# Altium integrated library Micron Memory DDR SDRAM.IntLib: 109 symbols (part 3 of 22)
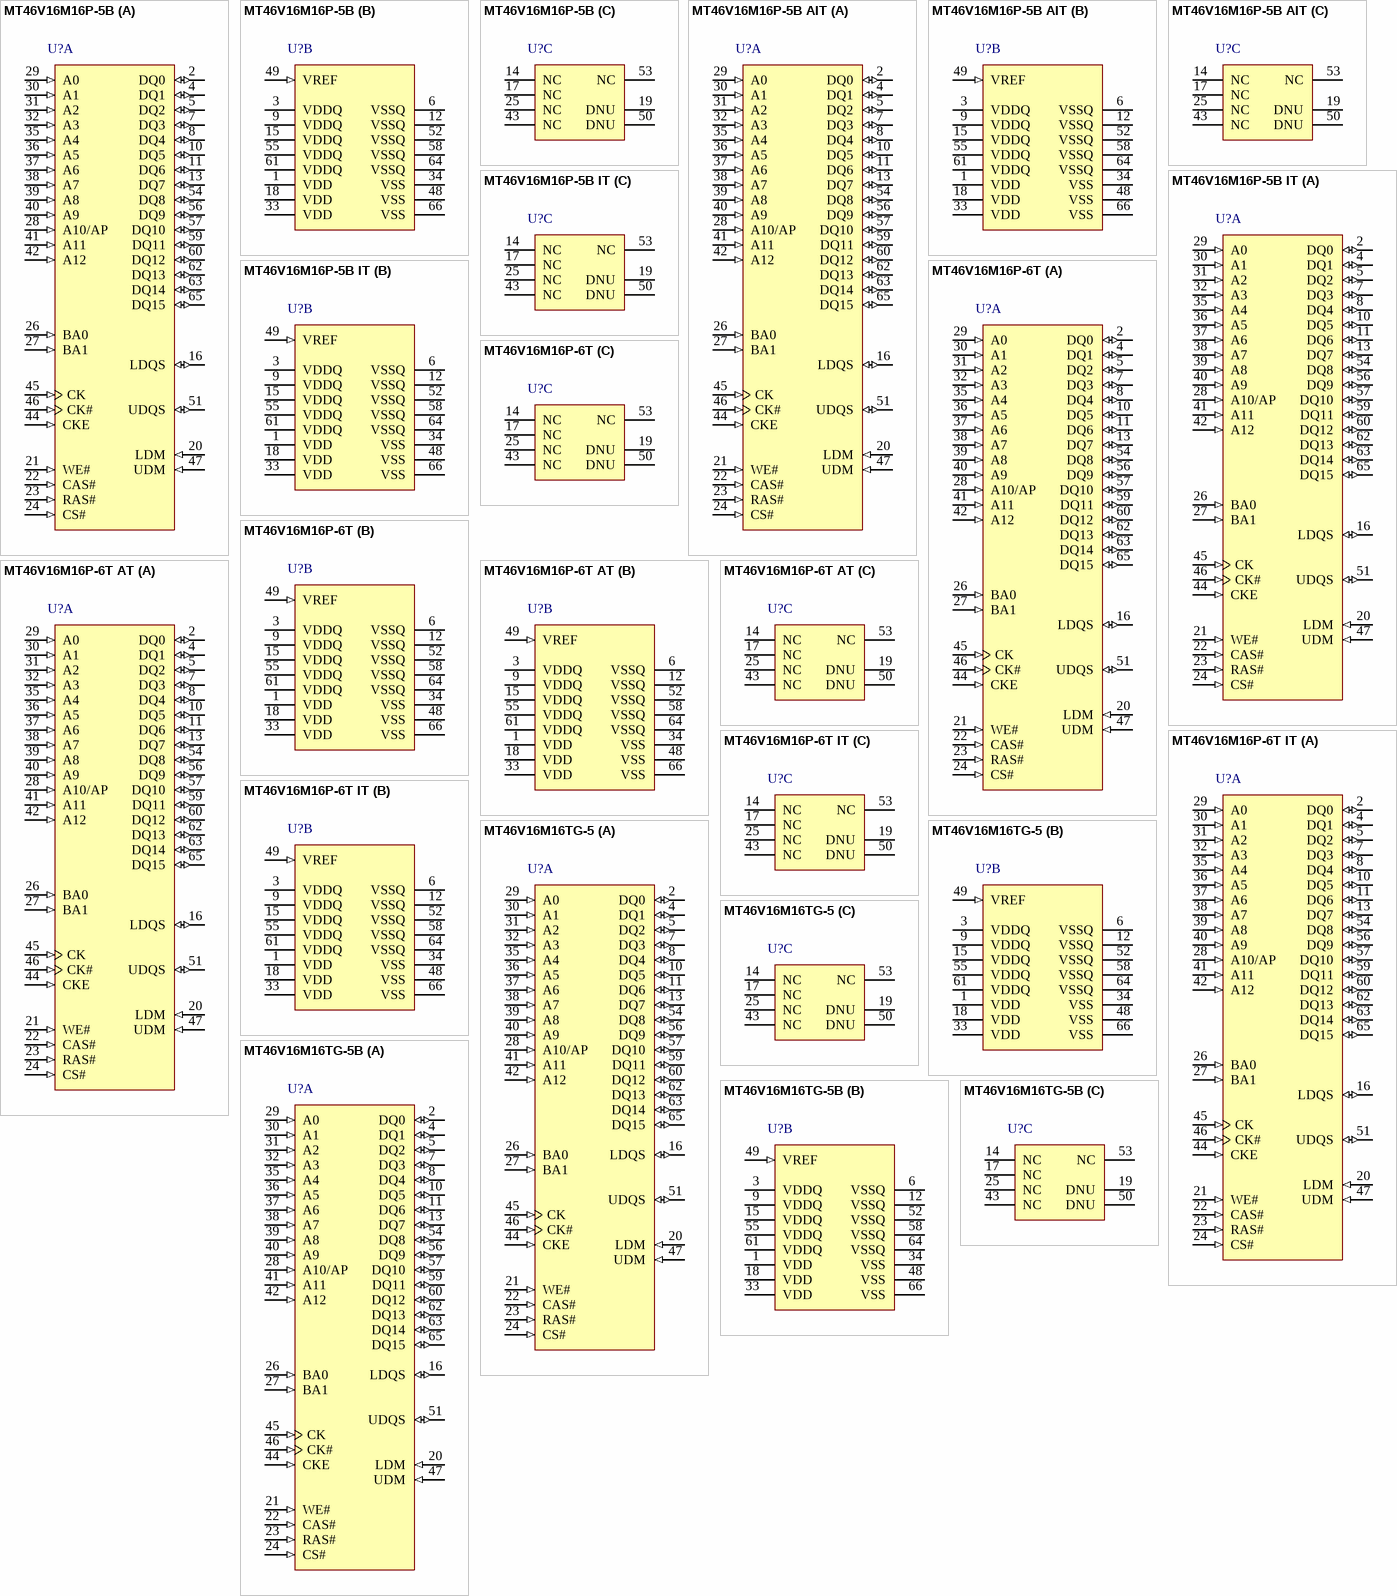
[diagram p15: symbols MT46V16M16P-5B to MT46V16M16TG-5B]

## MT46V16M16P-5B AIT
designator U?
256Mb 200MHz DDR SDRAM, 16Mb x 16, 5ns, 2.5V, -40 to 85 degC, 66-Pin TSOP, Pb-Free; Manufacturer: Micron; PartNumber: MT46V16M16P-5B AIT; Op. Temp.: -40C to +85C; DatasheetVersion: Rev.R; PackageVersion: Rev.R; PackageReference: MICT-P-66; PackageDescription: 66-Pin Thin Small Outline Package, 10.16 x 22.22 mm, Pitch 0.65 mm; Clock Rate: 200 MHz; Cycle Time: 5ns; Density: 256Mb; Depth: 16Mb; Package: TSOP; Part Status: Production; Pin Count: 66-pin; RoHS: Yes; Voltage: 2.5V; Width: x16; Mounting Technology: Surface Mount; ComponentLink1Description: Manufacturer URL; ComponentLink1URL: http://www.micron.com/; ComponentLink2Description: Datasheet; ComponentLink2URL: http://www.micron.com/~/media/Documents/Products/Data%20Sheet/DRAM/256Mb_DDR.pdf; ComponentLink3Description: Package Specification; ComponentLink3URL: http://www.micron.com/~/media/Documents/Products/Data%20Sheet/DRAM/256Mb_DDR.pdf
footprint MICT-P-66_N (SOP, 66-Leads, Body 22.22x10.16mm, Pitch 0.65mm, , IPC Medium Density)
part A pins: 2 DQ0 (io) "Data input/output: Data bus for x16 devices.", 4 DQ1 (io) "Data input/output: Data bus for x16 devices.", 5 DQ2 (io) "Data input/output: Data bus for x16 devices.", 7 DQ3 (io) "Data input/output: Data bus for x16 devices.", 8 DQ4 (io) "Data input/output: Data bus for x16 devices.", 10 DQ5 (io) "Data input/output: Data bus for x16 devices.", 11 DQ6 (io) "Data input/output: Data bus for x16 devices.", 13 DQ7 (io) "Data input/output: Data bus for x16 devices.", 16 LDQS (io) "Data strobe: Output with read data; input with write data. DQS is edge-aligned with read data; centered in write data. It is used to capture data. For x16 devices, LDQS is DQS for DQ[7:0], and UDQS is DQS for DQ[15:8]. Pin (See Datasheet)", 20 LDM (in) "Input data mask: DM is an input mask signal for write data. Input data is masked when DM is sampled HIGH along with that input data during a WRITE access. DM is sampled on both edges of DQS. Although DM pins are input-only, (See Datasheet)", 21 WE# (in) "Command inputs: RAS#, CAS#, and WE# (along with CS#) define the command being entered.", 22 CAS# (in) "Command inputs: RAS#, CAS#, and WE# (along with CS#) define the command being entered.", 23 RAS# (in) "Command inputs: RAS#, CAS#, and WE# (along with CS#) define the command being entered.", 24 CS# (in) "Chip select: CS# enables (registered LOW) and disables (registered HIGH) the command decoder. All commands are masked when CS# is registered HIGH. CS# provides for external bank selection on systems with multiple banks. CS# (See Datasheet)", 26 BA0 (in) "Bank address inputs: BA[1:0] define to which bank an ACTIVE, READ, WRITE, or PRECHARGE command is being applied. BA[1:0] also define which mode register (mode register or extended mode register) is loaded during the LOAD (See Datasheet)", 27 BA1 (in) "Bank address inputs: BA[1:0] define to which bank an ACTIVE, READ, WRITE, or PRECHARGE command is being applied. BA[1:0] also define which mode register (mode register or extended mode register) is loaded during the LOAD (See Datasheet)", 28 A10/AP (in) "Address inputs: Provide the row address for ACTIVE commands, and the column address and auto precharge bit (A10) for READ/WRITE commands, to select one location out of the memory array in the respective bank. A10 sampled (See Datasheet)", 29 A0 (in) "Address inputs: Provide the row address for ACTIVE commands, and the column address and auto precharge bit (A10) for READ/WRITE commands, to select one location out of the memory array in the respective bank. A10 sampled (See Datasheet)", 30 A1 (in) "Address inputs: Provide the row address for ACTIVE commands, and the column address and auto precharge bit (A10) for READ/WRITE commands, to select one location out of the memory array in the respective bank. A10 sampled (See Datasheet)", 31 A2 (in) "Address inputs: Provide the row address for ACTIVE commands, and the column address and auto precharge bit (A10) for READ/WRITE commands, to select one location out of the memory array in the respective bank. A10 sampled (See Datasheet)", 32 A3 (in) "Address inputs: Provide the row address for ACTIVE commands, and the column address and auto precharge bit (A10) for READ/WRITE commands, to select one location out of the memory array in the respective bank. A10 sampled (See Datasheet)", 35 A4 (in) "Address inputs: Provide the row address for ACTIVE commands, and the column address and auto precharge bit (A10) for READ/WRITE commands, to select one location out of the memory array in the respective bank. A10 sampled (See Datasheet)", 36 A5 (in) "Address inputs: Provide the row address for ACTIVE commands, and the column address and auto precharge bit (A10) for READ/WRITE commands, to select one location out of the memory array in the respective bank. A10 sampled (See Datasheet)", 37 A6 (in) "Address inputs: Provide the row address for ACTIVE commands, and the column address and auto precharge bit (A10) for READ/WRITE commands, to select one location out of the memory array in the respective bank. A10 sampled (See Datasheet)", 38 A7 (in) "Address inputs: Provide the row address for ACTIVE commands, and the column address and auto precharge bit (A10) for READ/WRITE commands, to select one location out of the memory array in the respective bank. A10 sampled (See Datasheet)", 39 A8 (in) "Address inputs: Provide the row address for ACTIVE commands, and the column address and auto precharge bit (A10) for READ/WRITE commands, to select one location out of the memory array in the respective bank. A10 sampled (See Datasheet)", 40 A9 (in) "Address inputs: Provide the row address for ACTIVE commands, and the column address and auto precharge bit (A10) for READ/WRITE commands, to select one location out of the memory array in the respective bank. A10 sampled (See Datasheet)", 41 A11 (in) "Address inputs: Provide the row address for ACTIVE commands, and the column address and auto precharge bit (A10) for READ/WRITE commands, to select one location out of the memory array in the respective bank. A10 sampled (See Datasheet)", 42 A12 (in) "Address inputs: Provide the row address for ACTIVE commands, and the column address and auto precharge bit (A10) for READ/WRITE commands, to select one location out of the memory array in the respective bank. A10 sampled (See Datasheet)", 44 CKE (in) "Clock enable: CKE HIGH activates and CKE LOW deactivates the internal clock, input buffers, and output drivers. Taking CKE LOW provides PRECHARGE POWER-DOWN and SELF REFRESH operations (all banks idle) or ACTIVE POWER-DOWN (See Datasheet)", 45 CK (in) "Clock: CK and CK# are differential clock inputs. All address and control input signals are sampled on the crossing of the positive edge of CK and the negative edge of CK#. Output data (DQ and DQS) is referenced to the (See Datasheet)", 46 CK# (in) "Clock: CK and CK# are differential clock inputs. All address and control input signals are sampled on the crossing of the positive edge of CK and the negative edge of CK#. Output data (DQ and DQS) is referenced to the (See Datasheet)", 47 UDM (in) "Input data mask: DM is an input mask signal for write data. Input data is masked when DM is sampled HIGH along with that input data during a WRITE access. DM is sampled on both edges of DQS. Although DM pins are input-only, (See Datasheet)", 51 UDQS (io) "Data strobe: Output with read data; input with write data. DQS is edge-aligned with read data; centered in write data. It is used to capture data. For x16 devices, LDQS is DQS for DQ[7:0], and UDQS is DQS for DQ[15:8]. Pin (See Datasheet)", 54 DQ8 (io) "Data input/output: Data bus for x16 devices.", 56 DQ9 (io) "Data input/output: Data bus for x16 devices.", 57 DQ10 (io) "Data input/output: Data bus for x16 devices.", 59 DQ11 (io) "Data input/output: Data bus for x16 devices.", 60 DQ12 (io) "Data input/output: Data bus for x16 devices.", 62 DQ13 (io) "Data input/output: Data bus for x16 devices.", 63 DQ14 (io) "Data input/output: Data bus for x16 devices.", 65 DQ15 (io) "Data input/output: Data bus for x16 devices."
part B pins: 1 VDD (power) "Power supply.", 3 VDDQ (power) "DQ power supply: Isolated on the die for improved noise immunity.", 6 VSSQ (power) "DQ ground: Isolated on the die for improved noise immunity.", 9 VDDQ (power) "DQ power supply: Isolated on the die for improved noise immunity.", 12 VSSQ (power) "DQ ground: Isolated on the die for improved noise immunity.", 15 VDDQ (power) "DQ power supply: Isolated on the die for improved noise immunity.", 18 VDD (power) "Power supply.", 33 VDD (power) "Power supply.", 34 VSS (power) "Ground.", 48 VSS (power) "Ground.", 49 VREF (in) "SSTL_2 reference voltage.", 52 VSSQ (power) "DQ ground: Isolated on the die for improved noise immunity.", 55 VDDQ (power) "DQ power supply: Isolated on the die for improved noise immunity.", 58 VSSQ (power) "DQ ground: Isolated on the die for improved noise immunity.", 61 VDDQ (power) "DQ power supply: Isolated on the die for improved noise immunity.", 64 VSSQ (power) "DQ ground: Isolated on the die for improved noise immunity.", 66 VSS (power) "Ground."
part C pins: 14 NC "No connect for x16, x8, x4: These pins should be left unconnected.", 17 NC "No connect for x16, x8, x4: These pins should be left unconnected.", 19 DNU "Do not use: Must float to minimize noise on VREF.", 25 NC "No connect for x16, x8, x4: These pins should be left unconnected.", 43 NC "No connect for x16, x8, x4: These pins should be left unconnected.", 50 DNU "Do not use: Must float to minimize noise on VREF.", 53 NC "No connect for x16, x8, x4: These pins should be left unconnected."

## MT46V16M16P-5B IT
designator U?
256Mb 200MHz DDR SDRAM, 16Mb x 16, 5ns, 2.6V, -40 to 85 degC, 66-Pin TSOP, Pb-Free; Manufacturer: Micron; PartNumber: MT46V16M16P-5B IT; Op. Temp.: -40C to +85C; DatasheetVersion: Rev.R; PackageVersion: Rev.R; PackageReference: MICT-P-66; PackageDescription: 66-Pin Thin Small Outline Package, 10.16 x 22.22 mm, Pitch 0.65 mm; Clock Rate: 200 MHz; Cycle Time: 5ns; Density: 256Mb; Depth: 16Mb; Package: TSOP; Part Status: Production; Pin Count: 66-pin; RoHS: Yes; Voltage: 2.6V; Width: x16; Mounting Technology: Surface Mount; ComponentLink1Description: Manufacturer URL; ComponentLink1URL: http://www.micron.com/; ComponentLink2Description: Datasheet; ComponentLink2URL: http://www.micron.com/~/media/Documents/Products/Data%20Sheet/DRAM/256Mb_DDR.pdf; ComponentLink3Description: Package Specification; ComponentLink3URL: http://www.micron.com/~/media/Documents/Products/Data%20Sheet/DRAM/256Mb_DDR.pdf
footprint MICT-P-66_N (SOP, 66-Leads, Body 22.22x10.16mm, Pitch 0.65mm, , IPC Medium Density)
part A pins: 2 DQ0 (io) "Data input/output: Data bus for x16 devices.", 4 DQ1 (io) "Data input/output: Data bus for x16 devices.", 5 DQ2 (io) "Data input/output: Data bus for x16 devices.", 7 DQ3 (io) "Data input/output: Data bus for x16 devices.", 8 DQ4 (io) "Data input/output: Data bus for x16 devices.", 10 DQ5 (io) "Data input/output: Data bus for x16 devices.", 11 DQ6 (io) "Data input/output: Data bus for x16 devices.", 13 DQ7 (io) "Data input/output: Data bus for x16 devices.", 16 LDQS (io) "Data strobe: Output with read data; input with write data. DQS is edge-aligned with read data; centered in write data. It is used to capture data. For x16 devices, LDQS is DQS for DQ[7:0], and UDQS is DQS for DQ[15:8]. Pin (See Datasheet)", 20 LDM (in) "Input data mask: DM is an input mask signal for write data. Input data is masked when DM is sampled HIGH along with that input data during a WRITE access. DM is sampled on both edges of DQS. Although DM pins are input-only, (See Datasheet)", 21 WE# (in) "Command inputs: RAS#, CAS#, and WE# (along with CS#) define the command being entered.", 22 CAS# (in) "Command inputs: RAS#, CAS#, and WE# (along with CS#) define the command being entered.", 23 RAS# (in) "Command inputs: RAS#, CAS#, and WE# (along with CS#) define the command being entered.", 24 CS# (in) "Chip select: CS# enables (registered LOW) and disables (registered HIGH) the command decoder. All commands are masked when CS# is registered HIGH. CS# provides for external bank selection on systems with multiple banks. CS# (See Datasheet)", 26 BA0 (in) "Bank address inputs: BA[1:0] define to which bank an ACTIVE, READ, WRITE, or PRECHARGE command is being applied. BA[1:0] also define which mode register (mode register or extended mode register) is loaded during the LOAD (See Datasheet)", 27 BA1 (in) "Bank address inputs: BA[1:0] define to which bank an ACTIVE, READ, WRITE, or PRECHARGE command is being applied. BA[1:0] also define which mode register (mode register or extended mode register) is loaded during the LOAD (See Datasheet)", 28 A10/AP (in) "Address inputs: Provide the row address for ACTIVE commands, and the column address and auto precharge bit (A10) for READ/WRITE commands, to select one location out of the memory array in the respective bank. A10 sampled (See Datasheet)", 29 A0 (in) "Address inputs: Provide the row address for ACTIVE commands, and the column address and auto precharge bit (A10) for READ/WRITE commands, to select one location out of the memory array in the respective bank. A10 sampled (See Datasheet)", 30 A1 (in) "Address inputs: Provide the row address for ACTIVE commands, and the column address and auto precharge bit (A10) for READ/WRITE commands, to select one location out of the memory array in the respective bank. A10 sampled (See Datasheet)", 31 A2 (in) "Address inputs: Provide the row address for ACTIVE commands, and the column address and auto precharge bit (A10) for READ/WRITE commands, to select one location out of the memory array in the respective bank. A10 sampled (See Datasheet)", 32 A3 (in) "Address inputs: Provide the row address for ACTIVE commands, and the column address and auto precharge bit (A10) for READ/WRITE commands, to select one location out of the memory array in the respective bank. A10 sampled (See Datasheet)", 35 A4 (in) "Address inputs: Provide the row address for ACTIVE commands, and the column address and auto precharge bit (A10) for READ/WRITE commands, to select one location out of the memory array in the respective bank. A10 sampled (See Datasheet)", 36 A5 (in) "Address inputs: Provide the row address for ACTIVE commands, and the column address and auto precharge bit (A10) for READ/WRITE commands, to select one location out of the memory array in the respective bank. A10 sampled (See Datasheet)", 37 A6 (in) "Address inputs: Provide the row address for ACTIVE commands, and the column address and auto precharge bit (A10) for READ/WRITE commands, to select one location out of the memory array in the respective bank. A10 sampled (See Datasheet)", 38 A7 (in) "Address inputs: Provide the row address for ACTIVE commands, and the column address and auto precharge bit (A10) for READ/WRITE commands, to select one location out of the memory array in the respective bank. A10 sampled (See Datasheet)", 39 A8 (in) "Address inputs: Provide the row address for ACTIVE commands, and the column address and auto precharge bit (A10) for READ/WRITE commands, to select one location out of the memory array in the respective bank. A10 sampled (See Datasheet)", 40 A9 (in) "Address inputs: Provide the row address for ACTIVE commands, and the column address and auto precharge bit (A10) for READ/WRITE commands, to select one location out of the memory array in the respective bank. A10 sampled (See Datasheet)", 41 A11 (in) "Address inputs: Provide the row address for ACTIVE commands, and the column address and auto precharge bit (A10) for READ/WRITE commands, to select one location out of the memory array in the respective bank. A10 sampled (See Datasheet)", 42 A12 (in) "Address inputs: Provide the row address for ACTIVE commands, and the column address and auto precharge bit (A10) for READ/WRITE commands, to select one location out of the memory array in the respective bank. A10 sampled (See Datasheet)", 44 CKE (in) "Clock enable: CKE HIGH activates and CKE LOW deactivates the internal clock, input buffers, and output drivers. Taking CKE LOW provides PRECHARGE POWER-DOWN and SELF REFRESH operations (all banks idle) or ACTIVE POWER-DOWN (See Datasheet)", 45 CK (in) "Clock: CK and CK# are differential clock inputs. All address and control input signals are sampled on the crossing of the positive edge of CK and the negative edge of CK#. Output data (DQ and DQS) is referenced to the (See Datasheet)", 46 CK# (in) "Clock: CK and CK# are differential clock inputs. All address and control input signals are sampled on the crossing of the positive edge of CK and the negative edge of CK#. Output data (DQ and DQS) is referenced to the (See Datasheet)", 47 UDM (in) "Input data mask: DM is an input mask signal for write data. Input data is masked when DM is sampled HIGH along with that input data during a WRITE access. DM is sampled on both edges of DQS. Although DM pins are input-only, (See Datasheet)", 51 UDQS (io) "Data strobe: Output with read data; input with write data. DQS is edge-aligned with read data; centered in write data. It is used to capture data. For x16 devices, LDQS is DQS for DQ[7:0], and UDQS is DQS for DQ[15:8]. Pin (See Datasheet)", 54 DQ8 (io) "Data input/output: Data bus for x16 devices.", 56 DQ9 (io) "Data input/output: Data bus for x16 devices.", 57 DQ10 (io) "Data input/output: Data bus for x16 devices.", 59 DQ11 (io) "Data input/output: Data bus for x16 devices.", 60 DQ12 (io) "Data input/output: Data bus for x16 devices.", 62 DQ13 (io) "Data input/output: Data bus for x16 devices.", 63 DQ14 (io) "Data input/output: Data bus for x16 devices.", 65 DQ15 (io) "Data input/output: Data bus for x16 devices."
part B pins: 1 VDD (power) "Power supply.", 3 VDDQ (power) "DQ power supply: Isolated on the die for improved noise immunity.", 6 VSSQ (power) "DQ ground: Isolated on the die for improved noise immunity.", 9 VDDQ (power) "DQ power supply: Isolated on the die for improved noise immunity.", 12 VSSQ (power) "DQ ground: Isolated on the die for improved noise immunity.", 15 VDDQ (power) "DQ power supply: Isolated on the die for improved noise immunity.", 18 VDD (power) "Power supply.", 33 VDD (power) "Power supply.", 34 VSS (power) "Ground.", 48 VSS (power) "Ground.", 49 VREF (in) "SSTL_2 reference voltage.", 52 VSSQ (power) "DQ ground: Isolated on the die for improved noise immunity.", 55 VDDQ (power) "DQ power supply: Isolated on the die for improved noise immunity.", 58 VSSQ (power) "DQ ground: Isolated on the die for improved noise immunity.", 61 VDDQ (power) "DQ power supply: Isolated on the die for improved noise immunity.", 64 VSSQ (power) "DQ ground: Isolated on the die for improved noise immunity.", 66 VSS (power) "Ground."
part C pins: 14 NC "No connect for x16, x8, x4: These pins should be left unconnected.", 17 NC "No connect for x16, x8, x4: These pins should be left unconnected.", 19 DNU "Do not use: Must float to minimize noise on VREF.", 25 NC "No connect for x16, x8, x4: These pins should be left unconnected.", 43 NC "No connect for x16, x8, x4: These pins should be left unconnected.", 50 DNU "Do not use: Must float to minimize noise on VREF.", 53 NC "No connect for x16, x8, x4: These pins should be left unconnected."

## MT46V16M16P-6T
designator U?
256Mb 167MHz DDR SDRAM, 16Mb x 16, 6ns, 2.5V, 0 to 70 degC, 66-Pin TSOP, Pb-Free; Manufacturer: Micron; PartNumber: MT46V16M16P-6T; Op. Temp.: 0C to +70C; DatasheetVersion: Rev.R; PackageVersion: Rev.R; PackageReference: MICT-P-66; PackageDescription: 66-Pin Thin Small Outline Package, 10.16 x 22.22 mm, Pitch 0.65 mm; Clock Rate: 167 MHz; Cycle Time: 6ns; Density: 256Mb; Depth: 16Mb; Package: TSOP; Part Status: EOL Pending; Pin Count: 66-pin; RoHS: Yes; Voltage: 2.5V; Width: x16; Mounting Technology: Surface Mount; ComponentLink1Description: Manufacturer URL; ComponentLink1URL: http://www.micron.com/; ComponentLink2Description: Datasheet; ComponentLink2URL: http://www.micron.com/~/media/Documents/Products/Data%20Sheet/DRAM/256Mb_DDR.pdf; ComponentLink3Description: Package Specification; ComponentLink3URL: http://www.micron.com/~/media/Documents/Products/Data%20Sheet/DRAM/256Mb_DDR.pdf
footprint MICT-P-66_N (SOP, 66-Leads, Body 22.22x10.16mm, Pitch 0.65mm, , IPC Medium Density)
part A pins: 2 DQ0 (io) "Data input/output: Data bus for x16 devices.", 4 DQ1 (io) "Data input/output: Data bus for x16 devices.", 5 DQ2 (io) "Data input/output: Data bus for x16 devices.", 7 DQ3 (io) "Data input/output: Data bus for x16 devices.", 8 DQ4 (io) "Data input/output: Data bus for x16 devices.", 10 DQ5 (io) "Data input/output: Data bus for x16 devices.", 11 DQ6 (io) "Data input/output: Data bus for x16 devices.", 13 DQ7 (io) "Data input/output: Data bus for x16 devices.", 16 LDQS (io) "Data strobe: Output with read data; input with write data. DQS is edge-aligned with read data; centered in write data. It is used to capture data. For x16 devices, LDQS is DQS for DQ[7:0], and UDQS is DQS for DQ[15:8]. Pin (See Datasheet)", 20 LDM (in) "Input data mask: DM is an input mask signal for write data. Input data is masked when DM is sampled HIGH along with that input data during a WRITE access. DM is sampled on both edges of DQS. Although DM pins are input-only, (See Datasheet)", 21 WE# (in) "Command inputs: RAS#, CAS#, and WE# (along with CS#) define the command being entered.", 22 CAS# (in) "Command inputs: RAS#, CAS#, and WE# (along with CS#) define the command being entered.", 23 RAS# (in) "Command inputs: RAS#, CAS#, and WE# (along with CS#) define the command being entered.", 24 CS# (in) "Chip select: CS# enables (registered LOW) and disables (registered HIGH) the command decoder. All commands are masked when CS# is registered HIGH. CS# provides for external bank selection on systems with multiple banks. CS# (See Datasheet)", 26 BA0 (in) "Bank address inputs: BA[1:0] define to which bank an ACTIVE, READ, WRITE, or PRECHARGE command is being applied. BA[1:0] also define which mode register (mode register or extended mode register) is loaded during the LOAD (See Datasheet)", 27 BA1 (in) "Bank address inputs: BA[1:0] define to which bank an ACTIVE, READ, WRITE, or PRECHARGE command is being applied. BA[1:0] also define which mode register (mode register or extended mode register) is loaded during the LOAD (See Datasheet)", 28 A10/AP (in) "Address inputs: Provide the row address for ACTIVE commands, and the column address and auto precharge bit (A10) for READ/WRITE commands, to select one location out of the memory array in the respective bank. A10 sampled (See Datasheet)", 29 A0 (in) "Address inputs: Provide the row address for ACTIVE commands, and the column address and auto precharge bit (A10) for READ/WRITE commands, to select one location out of the memory array in the respective bank. A10 sampled (See Datasheet)", 30 A1 (in) "Address inputs: Provide the row address for ACTIVE commands, and the column address and auto precharge bit (A10) for READ/WRITE commands, to select one location out of the memory array in the respective bank. A10 sampled (See Datasheet)", 31 A2 (in) "Address inputs: Provide the row address for ACTIVE commands, and the column address and auto precharge bit (A10) for READ/WRITE commands, to select one location out of the memory array in the respective bank. A10 sampled (See Datasheet)", 32 A3 (in) "Address inputs: Provide the row address for ACTIVE commands, and the column address and auto precharge bit (A10) for READ/WRITE commands, to select one location out of the memory array in the respective bank. A10 sampled (See Datasheet)", 35 A4 (in) "Address inputs: Provide the row address for ACTIVE commands, and the column address and auto precharge bit (A10) for READ/WRITE commands, to select one location out of the memory array in the respective bank. A10 sampled (See Datasheet)", 36 A5 (in) "Address inputs: Provide the row address for ACTIVE commands, and the column address and auto precharge bit (A10) for READ/WRITE commands, to select one location out of the memory array in the respective bank. A10 sampled (See Datasheet)", 37 A6 (in) "Address inputs: Provide the row address for ACTIVE commands, and the column address and auto precharge bit (A10) for READ/WRITE commands, to select one location out of the memory array in the respective bank. A10 sampled (See Datasheet)", 38 A7 (in) "Address inputs: Provide the row address for ACTIVE commands, and the column address and auto precharge bit (A10) for READ/WRITE commands, to select one location out of the memory array in the respective bank. A10 sampled (See Datasheet)", 39 A8 (in) "Address inputs: Provide the row address for ACTIVE commands, and the column address and auto precharge bit (A10) for READ/WRITE commands, to select one location out of the memory array in the respective bank. A10 sampled (See Datasheet)", 40 A9 (in) "Address inputs: Provide the row address for ACTIVE commands, and the column address and auto precharge bit (A10) for READ/WRITE commands, to select one location out of the memory array in the respective bank. A10 sampled (See Datasheet)", 41 A11 (in) "Address inputs: Provide the row address for ACTIVE commands, and the column address and auto precharge bit (A10) for READ/WRITE commands, to select one location out of the memory array in the respective bank. A10 sampled (See Datasheet)", 42 A12 (in) "Address inputs: Provide the row address for ACTIVE commands, and the column address and auto precharge bit (A10) for READ/WRITE commands, to select one location out of the memory array in the respective bank. A10 sampled (See Datasheet)", 44 CKE (in) "Clock enable: CKE HIGH activates and CKE LOW deactivates the internal clock, input buffers, and output drivers. Taking CKE LOW provides PRECHARGE POWER-DOWN and SELF REFRESH operations (all banks idle) or ACTIVE POWER-DOWN (See Datasheet)", 45 CK (in) "Clock: CK and CK# are differential clock inputs. All address and control input signals are sampled on the crossing of the positive edge of CK and the negative edge of CK#. Output data (DQ and DQS) is referenced to the (See Datasheet)", 46 CK# (in) "Clock: CK and CK# are differential clock inputs. All address and control input signals are sampled on the crossing of the positive edge of CK and the negative edge of CK#. Output data (DQ and DQS) is referenced to the (See Datasheet)", 47 UDM (in) "Input data mask: DM is an input mask signal for write data. Input data is masked when DM is sampled HIGH along with that input data during a WRITE access. DM is sampled on both edges of DQS. Although DM pins are input-only, (See Datasheet)", 51 UDQS (io) "Data strobe: Output with read data; input with write data. DQS is edge-aligned with read data; centered in write data. It is used to capture data. For x16 devices, LDQS is DQS for DQ[7:0], and UDQS is DQS for DQ[15:8]. Pin (See Datasheet)", 54 DQ8 (io) "Data input/output: Data bus for x16 devices.", 56 DQ9 (io) "Data input/output: Data bus for x16 devices.", 57 DQ10 (io) "Data input/output: Data bus for x16 devices.", 59 DQ11 (io) "Data input/output: Data bus for x16 devices.", 60 DQ12 (io) "Data input/output: Data bus for x16 devices.", 62 DQ13 (io) "Data input/output: Data bus for x16 devices.", 63 DQ14 (io) "Data input/output: Data bus for x16 devices.", 65 DQ15 (io) "Data input/output: Data bus for x16 devices."
part B pins: 1 VDD (power) "Power supply.", 3 VDDQ (power) "DQ power supply: Isolated on the die for improved noise immunity.", 6 VSSQ (power) "DQ ground: Isolated on the die for improved noise immunity.", 9 VDDQ (power) "DQ power supply: Isolated on the die for improved noise immunity.", 12 VSSQ (power) "DQ ground: Isolated on the die for improved noise immunity.", 15 VDDQ (power) "DQ power supply: Isolated on the die for improved noise immunity.", 18 VDD (power) "Power supply.", 33 VDD (power) "Power supply.", 34 VSS (power) "Ground.", 48 VSS (power) "Ground.", 49 VREF (in) "SSTL_2 reference voltage.", 52 VSSQ (power) "DQ ground: Isolated on the die for improved noise immunity.", 55 VDDQ (power) "DQ power supply: Isolated on the die for improved noise immunity.", 58 VSSQ (power) "DQ ground: Isolated on the die for improved noise immunity.", 61 VDDQ (power) "DQ power supply: Isolated on the die for improved noise immunity.", 64 VSSQ (power) "DQ ground: Isolated on the die for improved noise immunity.", 66 VSS (power) "Ground."
part C pins: 14 NC "No connect for x16, x8, x4: These pins should be left unconnected.", 17 NC "No connect for x16, x8, x4: These pins should be left unconnected.", 19 DNU "Do not use: Must float to minimize noise on VREF.", 25 NC "No connect for x16, x8, x4: These pins should be left unconnected.", 43 NC "No connect for x16, x8, x4: These pins should be left unconnected.", 50 DNU "Do not use: Must float to minimize noise on VREF.", 53 NC "No connect for x16, x8, x4: These pins should be left unconnected."

## MT46V16M16P-6T AT
designator U?
256Mb 167MHz DDR SDRAM, 16Mb x 16, 6ns, 2.5V, -40 to 105 degC, 66-Pin TSOP, Pb-Free; Manufacturer: Micron; PartNumber: MT46V16M16P-6T AT; Op. Temp.: -40C to +105C; DatasheetVersion: Rev.R; PackageVersion: Rev.R; PackageReference: MICT-P-66; PackageDescription: 66-Pin Thin Small Outline Package, 10.16 x 22.22 mm, Pitch 0.65 mm; Clock Rate: 167 MHz; Cycle Time: 6ns; Density: 256Mb; Depth: 16Mb; Package: TSOP; Part Status: Contact Factory; Pin Count: 66-pin; RoHS: Yes; Voltage: 2.5V; Width: x16; Mounting Technology: Surface Mount; ComponentLink1Description: Manufacturer URL; ComponentLink1URL: http://www.micron.com/; ComponentLink2Description: Datasheet; ComponentLink2URL: http://www.micron.com/~/media/Documents/Products/Data%20Sheet/DRAM/256Mb_DDR.pdf; ComponentLink3Description: Package Specification; ComponentLink3URL: http://www.micron.com/~/media/Documents/Products/Data%20Sheet/DRAM/256Mb_DDR.pdf
footprint MICT-P-66_N (SOP, 66-Leads, Body 22.22x10.16mm, Pitch 0.65mm, , IPC Medium Density)
part A pins: 2 DQ0 (io) "Data input/output: Data bus for x16 devices.", 4 DQ1 (io) "Data input/output: Data bus for x16 devices.", 5 DQ2 (io) "Data input/output: Data bus for x16 devices.", 7 DQ3 (io) "Data input/output: Data bus for x16 devices.", 8 DQ4 (io) "Data input/output: Data bus for x16 devices.", 10 DQ5 (io) "Data input/output: Data bus for x16 devices.", 11 DQ6 (io) "Data input/output: Data bus for x16 devices.", 13 DQ7 (io) "Data input/output: Data bus for x16 devices.", 16 LDQS (io) "Data strobe: Output with read data; input with write data. DQS is edge-aligned with read data; centered in write data. It is used to capture data. For x16 devices, LDQS is DQS for DQ[7:0], and UDQS is DQS for DQ[15:8]. Pin (See Datasheet)", 20 LDM (in) "Input data mask: DM is an input mask signal for write data. Input data is masked when DM is sampled HIGH along with that input data during a WRITE access. DM is sampled on both edges of DQS. Although DM pins are input-only, (See Datasheet)", 21 WE# (in) "Command inputs: RAS#, CAS#, and WE# (along with CS#) define the command being entered.", 22 CAS# (in) "Command inputs: RAS#, CAS#, and WE# (along with CS#) define the command being entered.", 23 RAS# (in) "Command inputs: RAS#, CAS#, and WE# (along with CS#) define the command being entered.", 24 CS# (in) "Chip select: CS# enables (registered LOW) and disables (registered HIGH) the command decoder. All commands are masked when CS# is registered HIGH. CS# provides for external bank selection on systems with multiple banks. CS# (See Datasheet)", 26 BA0 (in) "Bank address inputs: BA[1:0] define to which bank an ACTIVE, READ, WRITE, or PRECHARGE command is being applied. BA[1:0] also define which mode register (mode register or extended mode register) is loaded during the LOAD (See Datasheet)", 27 BA1 (in) "Bank address inputs: BA[1:0] define to which bank an ACTIVE, READ, WRITE, or PRECHARGE command is being applied. BA[1:0] also define which mode register (mode register or extended mode register) is loaded during the LOAD (See Datasheet)", 28 A10/AP (in) "Address inputs: Provide the row address for ACTIVE commands, and the column address and auto precharge bit (A10) for READ/WRITE commands, to select one location out of the memory array in the respective bank. A10 sampled (See Datasheet)", 29 A0 (in) "Address inputs: Provide the row address for ACTIVE commands, and the column address and auto precharge bit (A10) for READ/WRITE commands, to select one location out of the memory array in the respective bank. A10 sampled (See Datasheet)", 30 A1 (in) "Address inputs: Provide the row address for ACTIVE commands, and the column address and auto precharge bit (A10) for READ/WRITE commands, to select one location out of the memory array in the respective bank. A10 sampled (See Datasheet)", 31 A2 (in) "Address inputs: Provide the row address for ACTIVE commands, and the column address and auto precharge bit (A10) for READ/WRITE commands, to select one location out of the memory array in the respective bank. A10 sampled (See Datasheet)", 32 A3 (in) "Address inputs: Provide the row address for ACTIVE commands, and the column address and auto precharge bit (A10) for READ/WRITE commands, to select one location out of the memory array in the respective bank. A10 sampled (See Datasheet)", 35 A4 (in) "Address inputs: Provide the row address for ACTIVE commands, and the column address and auto precharge bit (A10) for READ/WRITE commands, to select one location out of the memory array in the respective bank. A10 sampled (See Datasheet)", 36 A5 (in) "Address inputs: Provide the row address for ACTIVE commands, and the column address and auto precharge bit (A10) for READ/WRITE commands, to select one location out of the memory array in the respective bank. A10 sampled (See Datasheet)", 37 A6 (in) "Address inputs: Provide the row address for ACTIVE commands, and the column address and auto precharge bit (A10) for READ/WRITE commands, to select one location out of the memory array in the respective bank. A10 sampled (See Datasheet)", 38 A7 (in) "Address inputs: Provide the row address for ACTIVE commands, and the column address and auto precharge bit (A10) for READ/WRITE commands, to select one location out of the memory array in the respective bank. A10 sampled (See Datasheet)", 39 A8 (in) "Address inputs: Provide the row address for ACTIVE commands, and the column address and auto precharge bit (A10) for READ/WRITE commands, to select one location out of the memory array in the respective bank. A10 sampled (See Datasheet)", 40 A9 (in) "Address inputs: Provide the row address for ACTIVE commands, and the column address and auto precharge bit (A10) for READ/WRITE commands, to select one location out of the memory array in the respective bank. A10 sampled (See Datasheet)", 41 A11 (in) "Address inputs: Provide the row address for ACTIVE commands, and the column address and auto precharge bit (A10) for READ/WRITE commands, to select one location out of the memory array in the respective bank. A10 sampled (See Datasheet)", 42 A12 (in) "Address inputs: Provide the row address for ACTIVE commands, and the column address and auto precharge bit (A10) for READ/WRITE commands, to select one location out of the memory array in the respective bank. A10 sampled (See Datasheet)", 44 CKE (in) "Clock enable: CKE HIGH activates and CKE LOW deactivates the internal clock, input buffers, and output drivers. Taking CKE LOW provides PRECHARGE POWER-DOWN and SELF REFRESH operations (all banks idle) or ACTIVE POWER-DOWN (See Datasheet)", 45 CK (in) "Clock: CK and CK# are differential clock inputs. All address and control input signals are sampled on the crossing of the positive edge of CK and the negative edge of CK#. Output data (DQ and DQS) is referenced to the (See Datasheet)", 46 CK# (in) "Clock: CK and CK# are differential clock inputs. All address and control input signals are sampled on the crossing of the positive edge of CK and the negative edge of CK#. Output data (DQ and DQS) is referenced to the (See Datasheet)", 47 UDM (in) "Input data mask: DM is an input mask signal for write data. Input data is masked when DM is sampled HIGH along with that input data during a WRITE access. DM is sampled on both edges of DQS. Although DM pins are input-only, (See Datasheet)", 51 UDQS (io) "Data strobe: Output with read data; input with write data. DQS is edge-aligned with read data; centered in write data. It is used to capture data. For x16 devices, LDQS is DQS for DQ[7:0], and UDQS is DQS for DQ[15:8]. Pin (See Datasheet)", 54 DQ8 (io) "Data input/output: Data bus for x16 devices.", 56 DQ9 (io) "Data input/output: Data bus for x16 devices.", 57 DQ10 (io) "Data input/output: Data bus for x16 devices.", 59 DQ11 (io) "Data input/output: Data bus for x16 devices.", 60 DQ12 (io) "Data input/output: Data bus for x16 devices.", 62 DQ13 (io) "Data input/output: Data bus for x16 devices.", 63 DQ14 (io) "Data input/output: Data bus for x16 devices.", 65 DQ15 (io) "Data input/output: Data bus for x16 devices."
part B pins: 1 VDD (power) "Power supply.", 3 VDDQ (power) "DQ power supply: Isolated on the die for improved noise immunity.", 6 VSSQ (power) "DQ ground: Isolated on the die for improved noise immunity.", 9 VDDQ (power) "DQ power supply: Isolated on the die for improved noise immunity.", 12 VSSQ (power) "DQ ground: Isolated on the die for improved noise immunity.", 15 VDDQ (power) "DQ power supply: Isolated on the die for improved noise immunity.", 18 VDD (power) "Power supply.", 33 VDD (power) "Power supply.", 34 VSS (power) "Ground.", 48 VSS (power) "Ground.", 49 VREF (in) "SSTL_2 reference voltage.", 52 VSSQ (power) "DQ ground: Isolated on the die for improved noise immunity.", 55 VDDQ (power) "DQ power supply: Isolated on the die for improved noise immunity.", 58 VSSQ (power) "DQ ground: Isolated on the die for improved noise immunity.", 61 VDDQ (power) "DQ power supply: Isolated on the die for improved noise immunity.", 64 VSSQ (power) "DQ ground: Isolated on the die for improved noise immunity.", 66 VSS (power) "Ground."
part C pins: 14 NC "No connect for x16, x8, x4: These pins should be left unconnected.", 17 NC "No connect for x16, x8, x4: These pins should be left unconnected.", 19 DNU "Do not use: Must float to minimize noise on VREF.", 25 NC "No connect for x16, x8, x4: These pins should be left unconnected.", 43 NC "No connect for x16, x8, x4: These pins should be left unconnected.", 50 DNU "Do not use: Must float to minimize noise on VREF.", 53 NC "No connect for x16, x8, x4: These pins should be left unconnected."

## MT46V16M16P-6T IT
designator U?
256Mb 167MHz DDR SDRAM, 16Mb x 16, 6ns, 2.5V, -40 to 85 degC, 66-Pin TSOP, Pb-Free; Manufacturer: Micron; PartNumber: MT46V16M16P-6T IT; Op. Temp.: -40C to +85C; DatasheetVersion: Rev.R; PackageVersion: Rev.R; PackageReference: MICT-P-66; PackageDescription: 66-Pin Thin Small Outline Package, 10.16 x 22.22 mm, Pitch 0.65 mm; Clock Rate: 167 MHz; Cycle Time: 6ns; Density: 256Mb; Depth: 16Mb; Package: TSOP; Part Status: EOL Pending; Pin Count: 66-pin; RoHS: Yes; Voltage: 2.5V; Width: x16; Mounting Technology: Surface Mount; ComponentLink1Description: Manufacturer URL; ComponentLink1URL: http://www.micron.com/; ComponentLink2Description: Datasheet; ComponentLink2URL: http://www.micron.com/~/media/Documents/Products/Data%20Sheet/DRAM/256Mb_DDR.pdf; ComponentLink3Description: Package Specification; ComponentLink3URL: http://www.micron.com/~/media/Documents/Products/Data%20Sheet/DRAM/256Mb_DDR.pdf
footprint MICT-P-66_N (SOP, 66-Leads, Body 22.22x10.16mm, Pitch 0.65mm, , IPC Medium Density)
part A pins: 2 DQ0 (io) "Data input/output: Data bus for x16 devices.", 4 DQ1 (io) "Data input/output: Data bus for x16 devices.", 5 DQ2 (io) "Data input/output: Data bus for x16 devices.", 7 DQ3 (io) "Data input/output: Data bus for x16 devices.", 8 DQ4 (io) "Data input/output: Data bus for x16 devices.", 10 DQ5 (io) "Data input/output: Data bus for x16 devices.", 11 DQ6 (io) "Data input/output: Data bus for x16 devices.", 13 DQ7 (io) "Data input/output: Data bus for x16 devices.", 16 LDQS (io) "Data strobe: Output with read data; input with write data. DQS is edge-aligned with read data; centered in write data. It is used to capture data. For x16 devices, LDQS is DQS for DQ[7:0], and UDQS is DQS for DQ[15:8]. Pin (See Datasheet)", 20 LDM (in) "Input data mask: DM is an input mask signal for write data. Input data is masked when DM is sampled HIGH along with that input data during a WRITE access. DM is sampled on both edges of DQS. Although DM pins are input-only, (See Datasheet)", 21 WE# (in) "Command inputs: RAS#, CAS#, and WE# (along with CS#) define the command being entered.", 22 CAS# (in) "Command inputs: RAS#, CAS#, and WE# (along with CS#) define the command being entered.", 23 RAS# (in) "Command inputs: RAS#, CAS#, and WE# (along with CS#) define the command being entered.", 24 CS# (in) "Chip select: CS# enables (registered LOW) and disables (registered HIGH) the command decoder. All commands are masked when CS# is registered HIGH. CS# provides for external bank selection on systems with multiple banks. CS# (See Datasheet)", 26 BA0 (in) "Bank address inputs: BA[1:0] define to which bank an ACTIVE, READ, WRITE, or PRECHARGE command is being applied. BA[1:0] also define which mode register (mode register or extended mode register) is loaded during the LOAD (See Datasheet)", 27 BA1 (in) "Bank address inputs: BA[1:0] define to which bank an ACTIVE, READ, WRITE, or PRECHARGE command is being applied. BA[1:0] also define which mode register (mode register or extended mode register) is loaded during the LOAD (See Datasheet)", 28 A10/AP (in) "Address inputs: Provide the row address for ACTIVE commands, and the column address and auto precharge bit (A10) for READ/WRITE commands, to select one location out of the memory array in the respective bank. A10 sampled (See Datasheet)", 29 A0 (in) "Address inputs: Provide the row address for ACTIVE commands, and the column address and auto precharge bit (A10) for READ/WRITE commands, to select one location out of the memory array in the respective bank. A10 sampled (See Datasheet)", 30 A1 (in) "Address inputs: Provide the row address for ACTIVE commands, and the column address and auto precharge bit (A10) for READ/WRITE commands, to select one location out of the memory array in the respective bank. A10 sampled (See Datasheet)", 31 A2 (in) "Address inputs: Provide the row address for ACTIVE commands, and the column address and auto precharge bit (A10) for READ/WRITE commands, to select one location out of the memory array in the respective bank. A10 sampled (See Datasheet)", 32 A3 (in) "Address inputs: Provide the row address for ACTIVE commands, and the column address and auto precharge bit (A10) for READ/WRITE commands, to select one location out of the memory array in the respective bank. A10 sampled (See Datasheet)", 35 A4 (in) "Address inputs: Provide the row address for ACTIVE commands, and the column address and auto precharge bit (A10) for READ/WRITE commands, to select one location out of the memory array in the respective bank. A10 sampled (See Datasheet)", 36 A5 (in) "Address inputs: Provide the row address for ACTIVE commands, and the column address and auto precharge bit (A10) for READ/WRITE commands, to select one location out of the memory array in the respective bank. A10 sampled (See Datasheet)", 37 A6 (in) "Address inputs: Provide the row address for ACTIVE commands, and the column address and auto precharge bit (A10) for READ/WRITE commands, to select one location out of the memory array in the respective bank. A10 sampled (See Datasheet)", 38 A7 (in) "Address inputs: Provide the row address for ACTIVE commands, and the column address and auto precharge bit (A10) for READ/WRITE commands, to select one location out of the memory array in the respective bank. A10 sampled (See Datasheet)", 39 A8 (in) "Address inputs: Provide the row address for ACTIVE commands, and the column address and auto precharge bit (A10) for READ/WRITE commands, to select one location out of the memory array in the respective bank. A10 sampled (See Datasheet)", 40 A9 (in) "Address inputs: Provide the row address for ACTIVE commands, and the column address and auto precharge bit (A10) for READ/WRITE commands, to select one location out of the memory array in the respective bank. A10 sampled (See Datasheet)", 41 A11 (in) "Address inputs: Provide the row address for ACTIVE commands, and the column address and auto precharge bit (A10) for READ/WRITE commands, to select one location out of the memory array in the respective bank. A10 sampled (See Datasheet)", 42 A12 (in) "Address inputs: Provide the row address for ACTIVE commands, and the column address and auto precharge bit (A10) for READ/WRITE commands, to select one location out of the memory array in the respective bank. A10 sampled (See Datasheet)", 44 CKE (in) "Clock enable: CKE HIGH activates and CKE LOW deactivates the internal clock, input buffers, and output drivers. Taking CKE LOW provides PRECHARGE POWER-DOWN and SELF REFRESH operations (all banks idle) or ACTIVE POWER-DOWN (See Datasheet)", 45 CK (in) "Clock: CK and CK# are differential clock inputs. All address and control input signals are sampled on the crossing of the positive edge of CK and the negative edge of CK#. Output data (DQ and DQS) is referenced to the (See Datasheet)", 46 CK# (in) "Clock: CK and CK# are differential clock inputs. All address and control input signals are sampled on the crossing of the positive edge of CK and the negative edge of CK#. Output data (DQ and DQS) is referenced to the (See Datasheet)", 47 UDM (in) "Input data mask: DM is an input mask signal for write data. Input data is masked when DM is sampled HIGH along with that input data during a WRITE access. DM is sampled on both edges of DQS. Although DM pins are input-only, (See Datasheet)", 51 UDQS (io) "Data strobe: Output with read data; input with write data. DQS is edge-aligned with read data; centered in write data. It is used to capture data. For x16 devices, LDQS is DQS for DQ[7:0], and UDQS is DQS for DQ[15:8]. Pin (See Datasheet)", 54 DQ8 (io) "Data input/output: Data bus for x16 devices.", 56 DQ9 (io) "Data input/output: Data bus for x16 devices.", 57 DQ10 (io) "Data input/output: Data bus for x16 devices.", 59 DQ11 (io) "Data input/output: Data bus for x16 devices.", 60 DQ12 (io) "Data input/output: Data bus for x16 devices.", 62 DQ13 (io) "Data input/output: Data bus for x16 devices.", 63 DQ14 (io) "Data input/output: Data bus for x16 devices.", 65 DQ15 (io) "Data input/output: Data bus for x16 devices."
part B pins: 1 VDD (power) "Power supply.", 3 VDDQ (power) "DQ power supply: Isolated on the die for improved noise immunity.", 6 VSSQ (power) "DQ ground: Isolated on the die for improved noise immunity.", 9 VDDQ (power) "DQ power supply: Isolated on the die for improved noise immunity.", 12 VSSQ (power) "DQ ground: Isolated on the die for improved noise immunity.", 15 VDDQ (power) "DQ power supply: Isolated on the die for improved noise immunity.", 18 VDD (power) "Power supply.", 33 VDD (power) "Power supply.", 34 VSS (power) "Ground.", 48 VSS (power) "Ground.", 49 VREF (in) "SSTL_2 reference voltage.", 52 VSSQ (power) "DQ ground: Isolated on the die for improved noise immunity.", 55 VDDQ (power) "DQ power supply: Isolated on the die for improved noise immunity.", 58 VSSQ (power) "DQ ground: Isolated on the die for improved noise immunity.", 61 VDDQ (power) "DQ power supply: Isolated on the die for improved noise immunity.", 64 VSSQ (power) "DQ ground: Isolated on the die for improved noise immunity.", 66 VSS (power) "Ground."
part C pins: 14 NC "No connect for x16, x8, x4: These pins should be left unconnected.", 17 NC "No connect for x16, x8, x4: These pins should be left unconnected.", 19 DNU "Do not use: Must float to minimize noise on VREF.", 25 NC "No connect for x16, x8, x4: These pins should be left unconnected.", 43 NC "No connect for x16, x8, x4: These pins should be left unconnected.", 50 DNU "Do not use: Must float to minimize noise on VREF.", 53 NC "No connect for x16, x8, x4: These pins should be left unconnected."